# Altium schematic symbol library Transistor_BJT.SchLib: 1 symbol
Pins are listed as number, name and electrical type; pins without a type are passive.

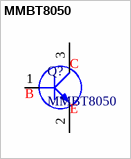
[diagram p0: symbol MMBT8050]

## MMBT8050
designator Q?
NPN Silicon Epitaxial Planar Transistor
footprint SOT-23 (SOT23, 3-Leads, Body 2.90x2.45mm, Pitch 0.95mm, IPC Medium Density)
pins: 1 B, 2 E, 3 C